# Altium schematic symbol library RES_1206.SchLib: 1 symbol
Pins are listed as number, name and electrical type; pins without a type are passive.

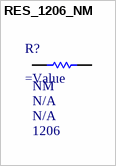
[diagram p0: symbol RES_1206_NM]

## RES_1206_NM
designator R?  Package / Case: 1206  Resistance: NM
RES, size 1206, NM, N/A; Supplier backup URL: N/A; Packaging: Tape and Reel; Supplier: N/A; Supplier Part Number: N/A; Supplier backup: N/A; Supplier backup Part Number: N/A; Manufacturer: N/A; Manufacturer Part Number: N/A; ComponentLink1Description: Datasheet; ComponentLink1URL: N/A; Mount: SMD/SMT; Operating Temperature Max: + 85 C; Operating Temperature Min: - 40 C; LCSC Part #: N/A; Supplier URL: N/A; Tolerance: N/A; Rated Power: N/A
footprint RES_1206 (Chip Resistor, 2-Leads, Body 3.15x1.65mm, IPC Medium Density)
pins: 1, 2